# Altium schematic symbol library 2177419-3.SchLib: 1 symbol
Pins are listed as number, name and electrical type; pins without a type are passive.

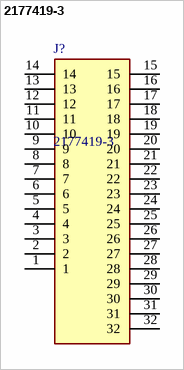
[diagram p0: symbol 2177419-3]

## 2177419-3
designator J?
PCB Mount Header, Horizontal, Wire-to-Board, 32 Position, 1.8 mm [.071 in] Centerline, Fully Shrouded, Tin, Through Hole - Solder, Signal, Nano MQS; Manufacturer_Name: TE Connectivity; Geometry.Height: 12.6mm; Manufacturer_Part_Number: 2177419-3; Mouser Part Number: 571-2177419-3; Mouser Price/Stock: https://www.mouser.co.uk/ProductDetail/TE-Connectivity-AMP/2177419-3?qs=N0TJGnUfxCAiqmcwF5KK1g%3D%3D; Arrow Part Number: 2177419-3; Arrow Price/Stock: https://www.arrow.com/en/products/2177419-3/te-connectivity; Datasheet Link: https://www.te.com/commerce/DocumentDelivery/DDEController?Action=srchrtrv&DocNm=114-94160&DocType=Specification%20Or%20Standard&DocLang=English&DocFormat=pdf&PartCntxt=2177419-3
footprint 21774193
pins: 1, 2, 3, 4, 5, 6, 7, 8, 9, 10, 11, 12, 13, 14, 15, 16, 17, 18, 19, 20, 21, 22, 23, 24, 25, 26, 27, 28, 29, 30, 31, 32